# Altium schematic symbol library PCI Express.SchLib: 1 symbol
Pins are listed as number, name and electrical type; pins without a type are passive.

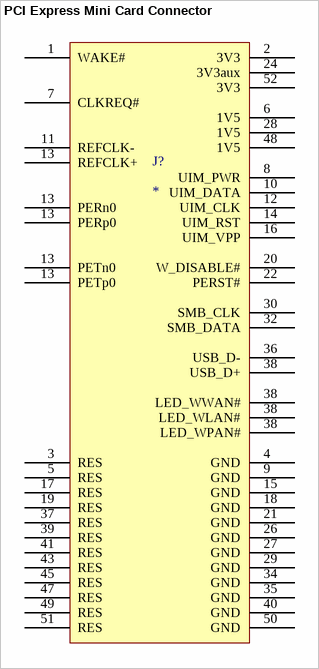
[diagram p0: symbol PCI Express Mini Card Connector]

## PCI Express Mini Card Connector
designator J?
Vendor: *; Part No.: *; Price Est.: *; Manufacturer: *
pins: 1 WAKE#, 2 3V3, 3 RES, 4 GND, 5 RES, 6 1V5, 7 CLKREQ#, 8 UIM_PWR, 9 GND, 10 UIM_DATA, 11 REFCLK-, 12 UIM_CLK, 13 REFCLK+, 13 PERn0, 13 PERp0, 13 PETn0, 13 PETp0, 14 UIM_RST, 15 GND, 16 UIM_VPP, 17 RES, 18 GND, 19 RES, 20 W_DISABLE#, 21 GND, 22 PERST#, 24 3V3aux, 26 GND, 27 GND, 28 1V5, 29 GND, 30 SMB_CLK, 32 SMB_DATA, 34 GND, 35 GND, 36 USB_D-, 37 RES, 38 USB_D+, 38 LED_WWAN#, 38 LED_WLAN#, 38 LED_WPAN#, 39 RES, 40 GND, 41 RES, 43 RES, 45 RES, 47 RES, 48 1V5, 49 RES, 50 GND, 51 RES, 52 3V3